# Altium schematic symbol library SnapEDAsch.SchLib: 1 symbol
Pins are listed as number, name and electrical type; pins without a type are passive.

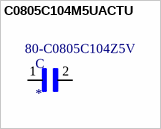
[diagram p0: symbol C0805C104M5UACTU]

## C0805C104M5UACTU
designator C  Supplier Part Number 1: 80-C0805C104Z5V
0.1ÂµF Â±20% 50V Ceramic Capacitor Z5U 0805 _2012 Metric_; MF: KEMET; MP: C0805C104M5UACTU; SnapEDA_Link: https://www.snapeda.com/parts/C0805C104M5UACTU/KEMET/view-part/455200/?ref=snap; Availability: Unavailable; Price: None; Package: 2012 KEMET; Value: *; Supplier 1: Mouser
footprint CAPC2012X88N
pins: 1, 2